# Altium schematic symbol library Spacer.Schlib: 1 symbol
Pins are listed as number, name and electrical type; pins without a type are passive.

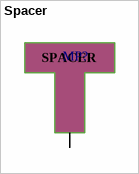
[diagram p0: symbol Spacer]

## Spacer
designator MP?
pins: 1
text: SPACER